# Altium schematic symbol library PMIC.SchLib: 1 symbol
Pins are listed as number, name and electrical type; pins without a type are passive.

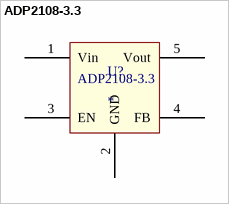
[diagram p0: symbol ADP2108-3.3]

## ADP2108-3.3
designator U?
3.3V buck converter
pins: 1 Vin (power), 2 GND (power), 3 EN, 4 FB, 5 Vout (power)